# Altium schematic symbol library DAQ.SchLib: 78 symbols (part 1 of 3)
Pins are listed as number, name and electrical type; pins without a type are passive.

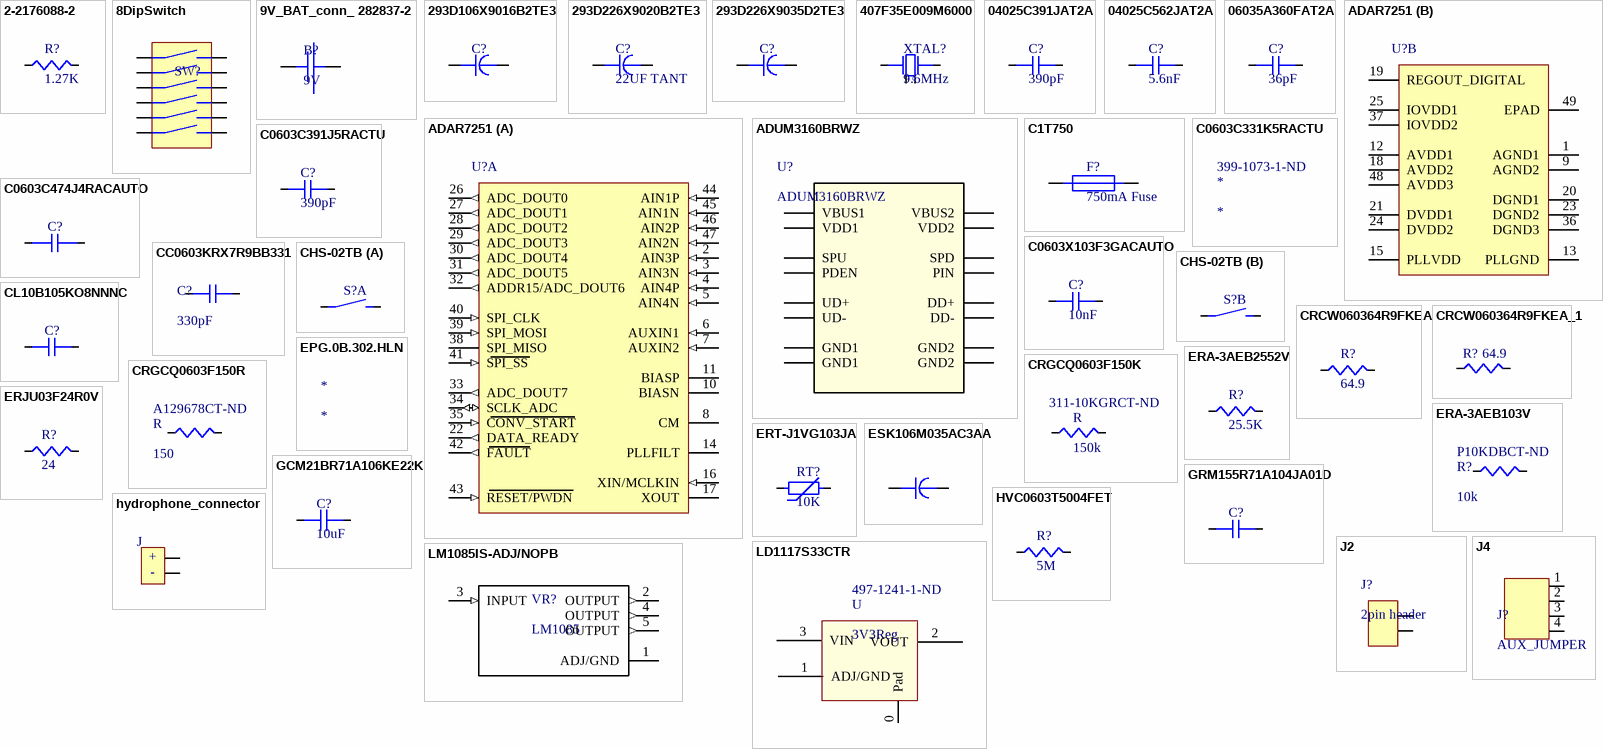
[diagram p0: symbols 2-2176088-2 to LM1085IS-ADJ/NOPB]

## 2-2176088-2
designator R?, comment 1.27K
RES SMD 1.27K OHM 0.1% 1/6W 0603; Manufacturer 1: Vishay Dale; Manufacturer Part Number 1: TNPW060310K0BEEA; Resistance: 10kR; Tolerance: 1%; Temperature Coefficient: 25ppm/°C; Power Rating: 100mW; Voltage Rating: 75V; Stock 1: 296181; Pricing 1: 1=0.65000, 10=0.46200, 100=0.24020, 1000=0.12936, 2500=0.12760 (USD); RoHS: Yes; Mount: Surface Mount; Case/Package: 0603; Weight: 7.1E-05oz; Contact Plating: Tin; Case Code (Metric): 1608; Case Code (Imperial): 0603; Min Operating Temperature: -55°C; Max Operating Temperature: 125°C; Composition: Thin Film; Packaging: Tape and Reel; Package Quantity: 1; Number of Terminations: 2; Termination: SMD/SMT; Military Standard: Not; Max Power Dissipation: 100mW; Features: Moisture Resistant,Automotive AEC-Q200,Anti-Sulfur; Length: 1.6mm; Height: 0.022inch; Width: 0.033inch; Depth: 0.85mm; Radiation Hardening: No; REACH SVHC: Unknown; ComponentLink1URL: https://datasheet.ciiva.com/2483/tnpw-e3-2483253.pdf?src-supplier=Digi-Key; ComponentLink1Description: https://datasheet.ciiva.com/2483/tnpw-e3-2483253.pdf?src-supplier=Digi-Key; ComponentLink2URL: https://datasheet.ciiva.com/17190/tnpw-e3-17190917.pdf?src-supplier=Avnet+Europe; ComponentLink2Description: https://datasheet.ciiva.com/17190/tnpw-e3-17190917.pdf?src-supplier=Avnet+Europe; ComponentLink3URL: https://datasheet.ciiva.com/2483/tnpw-e3-2483254.pdf?src-supplier=Digi-Key; ComponentLink3Description: https://datasheet.ciiva.com/2483/tnpw-e3-2483254.pdf?src-supplier=Digi-Key; ComponentLink4URL: https://datasheet.ciiva.com/2483/tnpw-e3-2483255.pdf?src-supplier=Digi-Key; ComponentLink4Description: https://datasheet.ciiva.com/2483/tnpw-e3-2483255.pdf?src-supplier=Digi-Key; ComponentLink5URL: https://datasheet.ciiva.com/16335/tnpw-e3-16335132.pdf?src-supplier=Future+Electronics; ComponentLink5Description: https://datasheet.ciiva.com/16335/tnpw-e3-16335132.pdf?src-supplier=Future+Electronics; ComponentLink6URL: https://datasheet.ciiva.com/28589/1912606-28589004.pdf?src-supplier=Element14; ComponentLink6Description: https://datasheet.ciiva.com/28589/1912606-28589004.pdf?src-supplier=Element14; ComponentLink7URL: https://datasheet.ciiva.com/7792/tnpw-e3-7792477.pdf?src-supplier=Element14; ComponentLink7Description: https://datasheet.ciiva.com/7792/tnpw-e3-7792477.pdf?src-supplier=Element14; ComponentLink8URL: https://datasheet.ciiva.com/9050/tnpw-e3-9050974.pdf?src-supplier=Avnet; ComponentLink8Description: https://datasheet.ciiva.com/9050/tnpw-e3-9050974.pdf?src-supplier=Avnet; Supplier 1: Digi-Key; Supplier Part Number 1: A110118CT-ND
footprint R0603
pins: 1, 2

## 8DipSwitch
designator SW?, comment 8DIP  (value not drawn)
Supplier 1: Digi-Key; Supplier Part Number 1: SW1116-ND
pins: 1, 2, 3, 4, 5, 6, 7, 8, 9, 10, 11, 12

## 9V_BAT_conn_ 282837-2
designator B?, comment 9V
Supplier 1: Digi-Key; Supplier Part Number 1: A113320-ND
footprint *TE_282837-2; pin to pad +>2 ->1
footprint HEADERPINS_2x1_Power
pins: +, -

## 293D106X9016B2TE3
designator C?, comment 10uF TANT  (value not drawn)
CAP TANT 10UF 10% 16V 1411; Manufacturer 1: Vishay Sprague; Manufacturer Part Number 1: 293D106X9016B2TE3; Dielectric Material: Tantalum; ESR (Equivalent Series Resistance): 2R; Ripple Current: 160mA; Leakage Current: 1.6uA; Polarity: Polar; Dissipation Factor: 6%; Q Factor: 6; Supplier 1: Digi-Key; Supplier Part Number 1: 718-1124-1-ND; Stock 1: 399568; Pricing 1: 1=0.44000, 10=0.30500, 100=0.18290, 500=0.13714, 1000=0.11581 (USD); RoHS: Yes; Mount: Surface Mount,PCB; Case/Package: 1411; Case Code (Metric): 3528; Case Code (Imperial): 1411; Min Operating Temperature: -55°C; Max Operating Temperature: 125°C; Package Quantity: 1; Capacitance: 10uF; Voltage Rating: 16V; Tolerance: 10%; Packaging: Tape and Reel; Voltage Rating (DC): 16V; Termination: SMD/SMT; Voltage: 16V; Features: General Purpose; Length: 3.5mm; Height: 1.9mm; Width: 0.11inch; Height - Seated (Max): 0.083inch; Depth: 2.8mm; Radiation Hardening: No; REACH SVHC: Unknown; Lead Free: Lead Free; ComponentLink1URL: https://datasheet.ciiva.com/11793/0900766b80d97b37-11793046.pdf?src-supplier=RSComponents; ComponentLink1Description: https://datasheet.ciiva.com/11793/0900766b80d97b37-11793046.pdf?src-supplier=RSComponents; ComponentLink2URL: https://datasheet.ciiva.com/27054/1931190-27054953.pdf?src-supplier=Jameco; ComponentLink2Description: https://datasheet.ciiva.com/27054/1931190-27054953.pdf?src-supplier=Jameco; ComponentLink3URL: https://datasheet.ciiva.com/258/293d-258176.pdf?src-supplier=Digi-Key; ComponentLink3Description: https://datasheet.ciiva.com/258/293d-258176.pdf?src-supplier=Digi-Key; ComponentLink4URL: https://datasheet.ciiva.com/258/293d-258177.pdf?src-supplier=Digi-Key; ComponentLink4Description: https://datasheet.ciiva.com/258/293d-258177.pdf?src-supplier=Digi-Key; ComponentLink5URL: https://datasheet.ciiva.com/16632/293d-16632453.pdf?src-supplier=Avnet+Europe; ComponentLink5Description: https://datasheet.ciiva.com/16632/293d-16632453.pdf?src-supplier=Avnet+Europe; ComponentLink6URL: https://datasheet.ciiva.com/3003/293d-3003830.pdf?src-supplier=Avnet; ComponentLink6Description: https://datasheet.ciiva.com/3003/293d-3003830.pdf?src-supplier=Avnet; ComponentLink7URL: https://datasheet.ciiva.com/16308/293d-16308278.pdf?src-supplier=Future+Electronics; ComponentLink7Description: https://datasheet.ciiva.com/16308/293d-16308278.pdf?src-supplier=Future+Electronics; ComponentLink8URL: https://datasheet.ciiva.com/3003/293d-3003831.pdf?src-supplier=Avnet; ComponentLink8Description: https://datasheet.ciiva.com/3003/293d-3003831.pdf?src-supplier=Avnet; ComponentLink9URL: https://datasheet.ciiva.com/12882/293d-239871-12882647.pdf?src-supplier=Mouser; ComponentLink9Description: https://datasheet.ciiva.com/12882/293d-239871-12882647.pdf?src-supplier=Mouser; ComponentLink10URL: https://datasheet.ciiva.com/18444/70212567-18444888.pdf?src-supplier=Allied+Electronics; ComponentLink10Description: https://datasheet.ciiva.com/18444/70212567-18444888.pdf?src-supplier=Allied+Electronics; ComponentLink11URL: https://datasheet.ciiva.com/22695/438417-22695112.pdf?src-supplier=Element14; ComponentLink11Description: https://datasheet.ciiva.com/22695/438417-22695112.pdf?src-supplier=Element14; ComponentLink12URL: https://datasheet.ciiva.com/22644/1748031-22644446.pdf?src-supplier=Element14; ComponentLink12Description: https://datasheet.ciiva.com/22644/1748031-22644446.pdf?src-supplier=Element14; ComponentLink13URL: https://datasheet.ciiva.com/258/293d-258175.pdf?src-supplier=Digi-Key; ComponentLink13Description: https://datasheet.ciiva.com/258/293d-258175.pdf?src-supplier=Digi-Key; ComponentLink14URL: https://datasheet.ciiva.com/29243/454876-da-01-en-smd-kondensator-293d106x9016b2te3-2000st-29243877.pdf?src-supplier=Conrad; ComponentLink14Description: https://datasheet.ciiva.com/29243/454876-da-01-en-smd-kondensator-293d106x9016b2te3-2000st-29243877.pdf?src-supplier=Conrad
footprint 293D106X9016B2TE3; pin to pad 5>2
pins: 1, 5

## 293D226X9020B2TE3
designator C?, comment 22UF TANT
CAP TANT 22UF 10% 20V 1411; Supplier 1: Digi-Key; Supplier Part Number 1: 718-1742-1-ND
footprint 293D106X9016B2TE3
pins: 1, 2

## 293D226X9035D2TE3
designator C?, comment 22UF TANT  (value not drawn)
CAP TANT 22UF 10% 35V 2917; Manufacturer 1: Vishay Sprague; Manufacturer Part Number 1: 293D226X9035D2TE3; Dielectric Material: Tantalum; ESR (Equivalent Series Resistance): 600mR; Polarity: Polar; Ripple Current: 500mA; Dissipation Factor: 6%; Voltage Rating (DC): 300kV; Leakage Current: 7.7uA; Supplier 1: Digi-Key; Supplier Part Number 1: 718-1071-1-ND; RoHS: Yes; Category: Tantalum Capacitors; Stock 1: 31; Pricing 1: 1=1.00000, 10=0.78800, 50=0.68260, 100=0.59060 (USD); Mount: Surface Mount,PCB; Case/Package: 2917; Case Code (Imperial): 2917; Case Code (Metric): 7343; Weight: 0.023634oz; Min Operating Temperature: -55°C; Max Operating Temperature: 125°C; Capacitance: 22uF; Tolerance: 10%; Voltage: 35V; Voltage Rating: 35V; Packaging: Tape and Reel; Package Quantity: 1; Termination: SMD/SMT; Features: General Purpose; Length: 7.3mm; Width: 2.8mm; Height: 2.8mm; Depth: 4.3mm; Height - Seated (Max): 0.122inch; Radiation Hardening: No; Lead Free: Lead Free; REACH SVHC: Unknown; ComponentLink1URL: https://datasheet.ciiva.com/11793/0900766b80d97b37-11793792.pdf?src-supplier=RSComponents; ComponentLink1Description: https://datasheet.ciiva.com/11793/0900766b80d97b37-11793792.pdf?src-supplier=RSComponents; ComponentLink2URL: https://datasheet.ciiva.com/3003/293d-3003938.pdf?src-supplier=Avnet; ComponentLink2Description: https://datasheet.ciiva.com/3003/293d-3003938.pdf?src-supplier=Avnet; ComponentLink3URL: https://datasheet.ciiva.com/16357/293d-16357928.pdf?src-supplier=Future+Electronics; ComponentLink3Description: https://datasheet.ciiva.com/16357/293d-16357928.pdf?src-supplier=Future+Electronics; ComponentLink4URL: https://datasheet.ciiva.com/22695/438417-22695144.pdf?src-supplier=Element14; ComponentLink4Description: https://datasheet.ciiva.com/22695/438417-22695144.pdf?src-supplier=Element14; ComponentLink5URL: https://datasheet.ciiva.com/260/293d-260029.pdf?src-supplier=Digi-Key; ComponentLink5Description: https://datasheet.ciiva.com/260/293d-260029.pdf?src-supplier=Digi-Key; ComponentLink6URL: https://datasheet.ciiva.com/260/293d-260031.pdf?src-supplier=Digi-Key; ComponentLink6Description: https://datasheet.ciiva.com/260/293d-260031.pdf?src-supplier=Digi-Key; ComponentLink7URL: https://datasheet.ciiva.com/1463/438417-1463353.pdf?src-supplier=Element14; ComponentLink7Description: https://datasheet.ciiva.com/1463/438417-1463353.pdf?src-supplier=Element14; ComponentLink8URL: https://datasheet.ciiva.com/260/293d-260030.pdf?src-supplier=Digi-Key; ComponentLink8Description: https://datasheet.ciiva.com/260/293d-260030.pdf?src-supplier=Digi-Key
footprint CAP_293D_D_VIS
pins: 1, 2

## 407F35E009M6000
designator XTAL?, comment 9.6MHz
CRYSTAL 9.6000MHZ 20PF SMD; Manufacturer 1: CTS; Manufacturer Part Number 1: 407F35E009M6000; Frequency Tolerance: 30ppm; ESR (Equivalent Series Resistance): 60R; Frequency Stability: 50ppm; Supplier 1: Digi-Key; Supplier Part Number 1: CTX680CT-ND; Stock 1: 2720; Pricing 1: 1=1.00000, 10=0.88800, 50=0.83020, 100=0.73360, 500=0.69498 (USD); RoHS: Yes; Mount: Surface Mount; Case/Package: SMD/SMT; Contact Plating: Gold; Min Operating Temperature: -20°C; Max Operating Temperature: 70°C; Package Quantity: 1; Frequency: 9.6MHz; Load Capacitance: 20pF; Packaging: Tape and Reel; Tolerance: 30ppm; Termination: SMD/SMT; Series Resistance: 60R; Length: 0.276inch; Height: 0.051inch; Width: 0.197inch; Lead Free: Lead Free; ComponentLink1URL: https://datasheet.ciiva.com/858/008-0261-0-g-858768.pdf?src-supplier=Digi-Key; ComponentLink1Description: https://datasheet.ciiva.com/858/008-0261-0-g-858768.pdf?src-supplier=Digi-Key; ComponentLink2URL: https://datasheet.ciiva.com/858/008-0261-0-g-858769.pdf?src-supplier=Digi-Key; ComponentLink2Description: https://datasheet.ciiva.com/858/008-0261-0-g-858769.pdf?src-supplier=Digi-Key; ComponentLink3URL: https://datasheet.ciiva.com/29892/008-0261-0-g-29892904.pdf?src-supplier=Avnet; ComponentLink3Description: https://datasheet.ciiva.com/29892/008-0261-0-g-29892904.pdf?src-supplier=Avnet; ComponentLink4URL: https://datasheet.ciiva.com/16317/008-0261-0-g-16317435.pdf?src-supplier=Future+Electronics; ComponentLink4Description: https://datasheet.ciiva.com/16317/008-0261-0-g-16317435.pdf?src-supplier=Future+Electronics; ComponentLink5URL: https://datasheet.ciiva.com/858/008-0261-0-g-858767.pdf?src-supplier=Digi-Key; ComponentLink5Description: https://datasheet.ciiva.com/858/008-0261-0-g-858767.pdf?src-supplier=Digi-Key
footprint XTAL_407F35E009M6000
pins: 1, 2, 3, 4
text: G

## 04025C391JAT2A
designator C?, comment 390pF
CAP CER 390PF 50V C0G/NP0 0603; Dielectric Material: Ceramic; Tolerance: 5%; Dielectric: C0G; Dissipation Factor: 0.1%; Temperature Coefficient: 30ppm/°C; RoHS: Yes; Mount: Surface Mount,PCB; Case/Package: 0603; Number of Pins: 2; Case Code (Metric): 1608; Case Code (Imperial): 0603; Min Operating Temperature: -55°C; Max Operating Temperature: 125°C; Capacitance: 390pF; Voltage Rating (DC): 50V; Packaging: Tape and Reel; Package Quantity: 1; Voltage Rating: 50V; Termination: SMD/SMT; Voltage: 50V; Length: 1.6mm; Height: 0.8mm; Depth: 0.8mm; Width: 0.8mm; Thickness: 0.034inch; Lead Pitch: 0.7mm; Radiation Hardening: No; Lead Free: Lead Free; REACH SVHC: No SVHC; ComponentLink1URL: https://datasheet.ciiva.com/144/docfinderpartnumber-c0603c391j5gactu-144833.pdf?src-supplier=Digi-Key; ComponentLink1Description: https://datasheet.ciiva.com/144/docfinderpartnumber-c0603c391j5gactu-144833.pdf?src-supplier=Digi-Key; ComponentLink2URL: https://datasheet.ciiva.com/7823/40889-7823769.pdf?src-supplier=Element14; ComponentLink2Description: https://datasheet.ciiva.com/7823/40889-7823769.pdf?src-supplier=Element14; ComponentLink3URL: https://datasheet.ciiva.com/7823/40889-7823770.pdf?src-supplier=Element14; ComponentLink3Description: https://datasheet.ciiva.com/7823/40889-7823770.pdf?src-supplier=Element14; ComponentLink4URL: https://datasheet.ciiva.com/5415/kem-c1003-c0g-smd-356956-5415640.pdf?src-supplier=Mouser; ComponentLink4Description: https://datasheet.ciiva.com/5415/kem-c1003-c0g-smd-356956-5415640.pdf?src-supplier=Mouser; ComponentLink5URL: https://datasheet.ciiva.com/18102/getdatasheetpartid-77374-18102795.pdf?src-supplier=Verical; ComponentLink5Description: https://datasheet.ciiva.com/18102/getdatasheetpartid-77374-18102795.pdf?src-supplier=Verical; ComponentLink6URL: https://datasheet.ciiva.com/18219/getdatasheetpartid-385544-18219227.pdf?src-supplier=Verical; ComponentLink6Description: https://datasheet.ciiva.com/18219/getdatasheetpartid-385544-18219227.pdf?src-supplier=Verical; Supplier 1: Digi-Key; Supplier Part Number 1: 478-5269-1-ND
footprint c0402
pins: 1, 2

## 04025C562JAT2A
designator C?, comment 5.6nF
Multilayer Ceramic Capacitors MLCC - SMD/SMT 50volts 5600pF 5% C0G; Voltage Rating (DC): 50V; Temperature Coefficient: 30ppm/°C; Dissipation Factor: 0.1%; RoHS: Yes; Mount: Surface Mount; Case/Package: 0603; Number of Pins: 2; Dielectric Material: Ceramic; Case Code (Metric): 1608; Case Code (Imperial): 0603; Min Operating Temperature: -55°C; Max Operating Temperature: 125°C; Capacitance: 5.6nF; Tolerance: 5%; Dielectric: C0G; Package Quantity: 4000; Voltage Rating: 50V; Packaging: Tape and Reel; Termination: SMD/SMT; Voltage: 50V; Length: 1.6mm; Height: 0.8mm; Width: 0.031inch; Thickness: 0.034inch; Depth: 0.8mm; Radiation Hardening: No; Lead Free: Lead Free; REACH SVHC: No SVHC; ComponentLink1URL: https://datasheet.ciiva.com/28608/1372242-28608633.pdf?src-supplier=Element14; ComponentLink1Description: https://datasheet.ciiva.com/28608/1372242-28608633.pdf?src-supplier=Element14; ComponentLink2URL: https://datasheet.ciiva.com/22705/40889-22705450.pdf?src-supplier=Element14; ComponentLink2Description: https://datasheet.ciiva.com/22705/40889-22705450.pdf?src-supplier=Element14; ComponentLink3URL: https://datasheet.ciiva.com/26847/getdatasheetpartid-385577-26847722.pdf?src-supplier=Verical; ComponentLink3Description: https://datasheet.ciiva.com/26847/getdatasheetpartid-385577-26847722.pdf?src-supplier=Verical; ComponentLink4URL: https://datasheet.ciiva.com/7823/40889-7823822.pdf?src-supplier=Element14; ComponentLink4Description: https://datasheet.ciiva.com/7823/40889-7823822.pdf?src-supplier=Element14; ComponentLink5URL: https://datasheet.ciiva.com/5448/kem-c1003-c0g-smd-356956-5448159.pdf?src-supplier=Mouser; ComponentLink5Description: https://datasheet.ciiva.com/5448/kem-c1003-c0g-smd-356956-5448159.pdf?src-supplier=Mouser; Supplier 1: Digi-Key; Supplier Part Number 1: 478-10129-1-ND
footprint C0402
pins: 1, 2

## 06035A360FAT2A
designator C?, comment 36pF
Multilayer Ceramic Capacitors MLCC - SMD/SMT 50V 36pF C0G 0603 1% Tol; Manufacturer 1: Kyocera AVX; Manufacturer Part Number 1: 06035A360FAT2A; Supplier 1: Digi-Key; Supplier Part Number 1: 478-11373-1-ND; Stock 1: 16266; Pricing 1: 1=0.55000, 10=0.38000, 100=0.22770, 500=0.17078, 1000=0.14421 (USD); RoHS: Yes; Mount: Surface Mount; Case/Package: 0603; Case Code (Imperial): 0603; Case Code (Metric): 1608; Min Operating Temperature: -55°C; Max Operating Temperature: 125°C; Capacitance: 36pF; Tolerance: 1%; Dielectric: C0G; Packaging: Tape and Reel; Package Quantity: 8000; Voltage Rating: 50V; Voltage Rating (DC): 50V; Termination: SMD/SMT; Length: 1.6mm; Depth: 0.81mm; Width: 0.81mm; Thickness: 0.035inch; Radiation Hardening: No; ComponentLink1URL: https://datasheet.ciiva.com/11567/ccog-11567927.pdf?src-supplier=Avnet; ComponentLink1Description: https://datasheet.ciiva.com/11567/ccog-11567927.pdf?src-supplier=Avnet; ComponentLink2URL: https://datasheet.ciiva.com/5423/ccog-243403-5423289.pdf?src-supplier=Mouser; ComponentLink2Description: https://datasheet.ciiva.com/5423/ccog-243403-5423289.pdf?src-supplier=Mouser; ComponentLink3URL: https://datasheet.ciiva.com/17492/ccog-17492554.pdf?src-supplier=Avnet+Europe; ComponentLink3Description: https://datasheet.ciiva.com/17492/ccog-17492554.pdf?src-supplier=Avnet+Europe; ComponentLink4URL: https://datasheet.ciiva.com/209/ccog-209692.pdf?src-supplier=Digi-Key; ComponentLink4Description: https://datasheet.ciiva.com/209/ccog-209692.pdf?src-supplier=Digi-Key
footprint C0603
pins: 1, 2

## ADAR7251
designator U?, comment 15  (value not drawn)
footprint QFN50P700X700X75-49N
part A pins: 2 AIN3P (in), 3 AIN3N (in), 4 AIN4P (in), 5 AIN4N (in), 6 AUXIN1 (in), 7 AUXIN2 (in), 8 CM, 10 BIASN, 11 BIASP, 14 PLLFILT, 16 XIN/MCLKIN (in), 17 XOUT, 22 DATA_READY (out), 26 ADC_DOUT0 (out), 27 ADC_DOUT1 (out), 28 ADC_DOUT2 (out), 29 ADC_DOUT3 (out), 30 ADC_DOUT4 (out), 31 ADC_DOUT5 (out), 32 ADDR15/ADC_DOUT6 (out), 33 ADC_DOUT7 (out), 34 SCLK_ADC (io), 35 CONV_START (in), 38 SPI_MISO, 39 SPI_MOSI (in), 40 SPI_CLK (in), 41 SPI_SS (in), 42 FAULT (out), 43 RESET/PWDN (in), 44 AIN1P (in), 45 AIN1N (in), 46 AIN2P (in), 47 AIN2N (in)
part B pins: 1 AGND1, 9 AGND2, 12 AVDD1, 13 PLLGND, 15 PLLVDD, 18 AVDD2, 19 REGOUT_DIGITAL, 20 DGND1, 21 DVDD1, 23 DGND2, 24 DVDD2, 25 IOVDD1, 36 DGND3, 37 IOVDD2, 48 AVDD3, 49 EPAD

## ADUM3160BRWZ
designator U?
USB Isolation; SourceLibrary: Analog_2015-12-15; Built_By: EMA_UL_Team; Vendor: Analog Devices Inc; Manufacturer_Part_Number: ADUM3160BRWZ; Copyright: Copyright (C) 2018 Accelerated Designs. All rights reserved; RefDes: RefDes; Type: DEV
footprint RW_16_ADI-L
pins: 1 VBUS1, 2 GND1, 3 VDD1, 4 PDEN, 5 SPU, 6 UD-, 7 UD+, 8 GND1, 9 GND2, 10 DD+, 11 DD-, 12 PIN, 13 SPD, 14 VDD2, 15 GND2, 16 VBUS2

## C1T750
designator F?, comment 750mA Fuse
FUSE 750MA 63VAC/DC SLOW 1206; Manufacturer 1: Bel TRP; Manufacturer Part Number 1: C1T750; Voltage Rating (AC): 63V; Fuse Type: Board Mount (Cartridge Style Excluded); Approvals: CE,cURus; Supplier 1: Digi-Key; Supplier Part Number 1: 507-1890-1-ND; Stock 1: 49664; Pricing 1: 1=0.31000, 5=0.29800, 10=0.28500, 50=0.25460, 100=0.23700, 250=0.21068, 500=0.17556, 1000=0.16678 (USD); RoHS: Yes; Mount: Surface Mount; Case/Package: 1206; Number of Pins: 2; Case Code (Metric): 3216; Case Code (Imperial): 1206; Contact Plating: Tin; Min Operating Temperature: -55°C; Max Operating Temperature: 125°C; Packaging: Tape and Reel; Current Rating: 750mA; Voltage Rating (DC): 63V; Voltage Rating: 63V; Length: 0.126inch; Width: 0.062inch; ComponentLink1URL: http://www.mouser.com/ds/2/643/C1T-594765.pdf?src-supplier=Mouser; ComponentLink1Description: http://www.mouser.com/ds/2/643/C1T-594765.pdf?src-supplier=Mouser; ComponentLink2URL: http://belfuse.com/pdfs/C1T.pdf?src-supplier=Avnet; ComponentLink2Description: http://belfuse.com/pdfs/C1T.pdf?src-supplier=Avnet; ComponentLink3URL: https://belfuse.com/resources/datasheets/circuitprotection/ds-cp-c1t-series.pdf?src-supplier=Digi-Key; ComponentLink3Description: https://belfuse.com/resources/datasheets/circuitprotection/ds-cp-c1t-series.pdf?src-supplier=Digi-Key
footprint fuse_C1T_1206
pins: 1, 2

## C0603C331K5RACTU
designator *  Supplier Part Number 1: 399-1073-1-ND
KEMET - C0603C331K5RACTU - CAP, 330PF, 50V, 10%, X7R, 0603; Dielectric Material: Ceramic; Dissipation Factor: 2.5%; Supplier 1: Digi-Key; Manufacturer 1: KEMET; Manufacturer Part Number 1: C0603C331K5RACTU; Stock 1: 248796; Pricing 1: 1=0.10000, 10=0.07500, 100=0.03350, 500=0.02390, 1000=0.01879 (USD); RoHS: Yes; Mount: Surface Mount; Case/Package: 0603; Number of Pins: 2; Case Code (Metric): 1608; Case Code (Imperial): 0603; Min Operating Temperature: -55°C; Max Operating Temperature: 125°C; Capacitance: 330pF; Tolerance: 10%; Voltage Rating: 50V; Packaging: Tape and Reel; Voltage Rating (DC): 50V; Package Quantity: 1; Dielectric: X7R; Termination: SMD/SMT; Voltage: 50V; Length: 1.6mm; Height: 0.8mm; Width: 0.031inch; Thickness: 0.034inch; Depth: 0.8mm; Lead Pitch: 0.7mm; Radiation Hardening: No; REACH SVHC: No SVHC; ComponentLink1URL: https://datasheet.ciiva.com/18102/getdatasheetpartid-66936-18102342.pdf?src-supplier=Verical; ComponentLink1Description: https://datasheet.ciiva.com/18102/getdatasheetpartid-66936-18102342.pdf?src-supplier=Verical; ComponentLink2URL: https://datasheet.ciiva.com/18192/getdatasheetpartid-356611-18192982.pdf?src-supplier=Verical; ComponentLink2Description: https://datasheet.ciiva.com/18192/getdatasheetpartid-356611-18192982.pdf?src-supplier=Verical; ComponentLink3URL: https://datasheet.ciiva.com/49516/1637206-49516647.pdf?src-supplier=Jameco; ComponentLink3Description: https://datasheet.ciiva.com/49516/1637206-49516647.pdf?src-supplier=Jameco; ComponentLink4URL: https://datasheet.ciiva.com/5422/kem-c1002-x7r-smd-357932-5422745.pdf?src-supplier=Mouser; ComponentLink4Description: https://datasheet.ciiva.com/5422/kem-c1002-x7r-smd-357932-5422745.pdf?src-supplier=Mouser; ComponentLink5URL: https://datasheet.ciiva.com/46440/1851736-46440607.pdf?src-supplier=Element14; ComponentLink5Description: https://datasheet.ciiva.com/46440/1851736-46440607.pdf?src-supplier=Element14

## C0603C391J5RACTU
designator C?, comment 390pF
CAP CER 390PF 50V X7R 0603; Manufacturer 1: Murata; Manufacturer Part Number 1: GRM155R71A104JA01D; Capacitance: 100nF; Tolerance: 5%; Voltage Rating: 10V; Stock 1: 1113659; Pricing 1: 1=0.10000, 10=0.02800, 100=0.01240, 500=0.00886, 1000=0.00696, 2500=0.00632, 5000=0.00582 (USD); RoHS: Yes; Mount: Surface Mount; Case/Package: 0402; Case Code (Imperial): 0402; Case Code (Metric): 1005; Min Operating Temperature: -55°C; Max Operating Temperature: 125°C; Packaging: Tape and Reel; Voltage Rating (DC): 10V; Package Quantity: 10000; Dielectric: X7R; Termination: SMD/SMT; Length: 1mm; Height: 0.5mm; Width: 0.02inch; Thickness: 0.022inch; Depth: 0.5mm; Radiation Hardening: No; Lead Free: Lead Free; ComponentLink1URL: https://datasheet.ciiva.com/5411/product-5411135.pdf?src-supplier=Mouser; ComponentLink1Description: https://datasheet.ciiva.com/5411/product-5411135.pdf?src-supplier=Mouser; ComponentLink2URL: https://datasheet.ciiva.com/11618/c02e-11618821.pdf?src-supplier=Avnet; ComponentLink2Description: https://datasheet.ciiva.com/11618/c02e-11618821.pdf?src-supplier=Avnet; Supplier 1: Digi-Key; Supplier Part Number 1: 399-9074-1-ND
footprint C0603
pins: 1, 2

## C0603C474J4RACAUTO
designator C?, comment .47uF  (value not drawn)
KEMET - C0603C474J4RACAUTO - CAP, 0.47µF, 16V, 5%, X7R, 0603; Capacitance: 470nF; Supplier 1: Digi-Key; Supplier Part Number 1: 399-17596-1-ND; Manufacturer 1: KEMET; Manufacturer Part Number 1: C0603C474J4RACAUTO; Stock 1: 10040; Pricing 1: 1=0.51000, 10=0.35800, 100=0.23570, 500=0.17462, 1000=0.14842 (USD); RoHS: Yes; Case/Package: 0603; Min Operating Temperature: -55°C; Max Operating Temperature: 125°C; Dielectric: X7R; Tolerance: 5%; Packaging: Tape and Reel; Length: 1.6mm; Depth: 0.8mm; ComponentLink1URL: http://www.farnell.com/datasheets/2749769.pdf?src-supplier=Farnell; ComponentLink1Description: http://www.farnell.com/datasheets/2749769.pdf?src-supplier=Farnell; ComponentLink2URL: http://components.arrow.com/part/dataview/0323_07310140?src-supplier=Arrow+Europe; ComponentLink2Description: http://components.arrow.com/part/dataview/0323_07310140?src-supplier=Arrow+Europe; ComponentLink3URL: https://api.kemet.com/component-edge/download/datasheet/C0603C474J4RACAUTO.pdf?src-supplier=Digi-Key; ComponentLink3Description: https://api.kemet.com/component-edge/download/datasheet/C0603C474J4RACAUTO.pdf?src-supplier=Digi-Key; ComponentLink4URL: http://www.farnell.com/datasheets/2749769.pdf?src-supplier=Element14; ComponentLink4Description: http://www.farnell.com/datasheets/2749769.pdf?src-supplier=Element14; ComponentLink5URL: http://www.farnell.com/datasheets/2749769.pdf?src-supplier=Newark; ComponentLink5Description: http://www.farnell.com/datasheets/2749769.pdf?src-supplier=Newark
footprint C0603
pins: 1, 2

## C0603X103F3GACAUTO
designator C?, comment 10nF
CAP CER 10000PF 25V C0G/NP0 0603; Manufacturer 1: Murata; Manufacturer Part Number 1: GRM155R71A104JA01D; Capacitance: 100nF; Tolerance: 5%; Voltage Rating: 10V; Dielectric: X7R; Stock 1: 1113659; Pricing 1: 1=0.10000, 10=0.02800, 100=0.01240, 500=0.00886, 1000=0.00696, 2500=0.00632, 5000=0.00582 (USD); RoHS: Yes; Mount: Surface Mount; Case/Package: 0402; Case Code (Imperial): 0402; Case Code (Metric): 1005; Min Operating Temperature: -55°C; Max Operating Temperature: 125°C; Packaging: Tape and Reel; Voltage Rating (DC): 10V; Package Quantity: 10000; Termination: SMD/SMT; Length: 1mm; Height: 0.5mm; Width: 0.02inch; Thickness: 0.022inch; Depth: 0.5mm; Radiation Hardening: No; Lead Free: Lead Free; ComponentLink1URL: https://datasheet.ciiva.com/5411/product-5411135.pdf?src-supplier=Mouser; ComponentLink1Description: https://datasheet.ciiva.com/5411/product-5411135.pdf?src-supplier=Mouser; ComponentLink2URL: https://datasheet.ciiva.com/11618/c02e-11618821.pdf?src-supplier=Avnet; ComponentLink2Description: https://datasheet.ciiva.com/11618/c02e-11618821.pdf?src-supplier=Avnet; Supplier 1: Digi-Key; Supplier Part Number 1: 399-C0603X103F3GACAUTOCT-ND
footprint C0603
pins: 1, 2

## CC0603KRX7R9BB331
designator C?, comment 330pF
CAP CER 330PF 50V X7R 0603; Tolerance: 10%; Insulation Resistance: 10GR; Dissipation Factor: 2.5%; RoHS: Yes; Mount: Surface Mount; Case/Package: 0603; Case Code (Imperial): 0603; Case Code (Metric): 1608; Min Operating Temperature: -55°C; Max Operating Temperature: 125°C; Capacitance: 330pF; Dielectric: X7R; Package Quantity: 1; Voltage Rating: 50V; Voltage Rating (DC): 50V; Packaging: Tape and Reel; Termination: SMD/SMT; Composition: Ceramic; Length: 1.6mm; Height: 0.8mm; Depth: 0.8mm; Width: 0.8mm; Thickness: 0.035inch; Radiation Hardening: No; REACH SVHC: Unknown; Lead Free: Lead Free; Halogen Free: Halogen Free; ComponentLink1URL: https://datasheet.ciiva.com/8033/1489800-8033879.pdf?src-supplier=Element14; ComponentLink1Description: https://datasheet.ciiva.com/8033/1489800-8033879.pdf?src-supplier=Element14; ComponentLink2URL: https://datasheet.ciiva.com/17434/upy-gphc-x7r-6-3v-to-50v-8-17434663.pdf?src-supplier=Avnet+Europe; ComponentLink2Description: https://datasheet.ciiva.com/17434/upy-gphc-x7r-6-3v-to-50v-8-17434663.pdf?src-supplier=Avnet+Europe; ComponentLink3URL: https://datasheet.ciiva.com/144/mlccorderingcode-144456.pdf?src-supplier=Digi-Key; ComponentLink3Description: https://datasheet.ciiva.com/144/mlccorderingcode-144456.pdf?src-supplier=Digi-Key; ComponentLink4URL: https://datasheet.ciiva.com/144/mlccorderingcode-144454.pdf?src-supplier=Digi-Key; ComponentLink4Description: https://datasheet.ciiva.com/144/mlccorderingcode-144454.pdf?src-supplier=Digi-Key; ComponentLink5URL: https://datasheet.ciiva.com/144/mlccorderingcode-144455.pdf?src-supplier=Digi-Key; ComponentLink5Description: https://datasheet.ciiva.com/144/mlccorderingcode-144455.pdf?src-supplier=Digi-Key; ComponentLink6URL: https://datasheet.ciiva.com/11465/upy-gphc-x7r-6-3v-to-50v-8-11465240.pdf?src-supplier=Avnet; ComponentLink6Description: https://datasheet.ciiva.com/11465/upy-gphc-x7r-6-3v-to-50v-8-11465240.pdf?src-supplier=Avnet; ComponentLink7URL: https://datasheet.ciiva.com/8033/1489800-8033881.pdf?src-supplier=Element14; ComponentLink7Description: https://datasheet.ciiva.com/8033/1489800-8033881.pdf?src-supplier=Element14; ComponentLink8URL: https://datasheet.ciiva.com/7978/1489800-7978174.pdf?src-supplier=Element14; ComponentLink8Description: https://datasheet.ciiva.com/7978/1489800-7978174.pdf?src-supplier=Element14; Supplier 1: Digi-Key; Supplier Part Number 1: 311-1186-1-ND
footprint C0603
pins: 1, 2

## CHS-02TB
designator S?, comment DIP2  (value not drawn)
SWITCH SLIDE DIP SPST 100MA 6V; Body Material: Polyphenylene; Mechanical Life: 1000Cycles; Actuator Material: Polyamide; Max Voltage Rating (DC): 24V; Number of Positions: 2; Contact Resistance: 50mR; Current Rating: 25mA; Actuator Type: Slide (Standard); Pitch: 0.1inch; Actuator Length: 0mm; Washable: Yes; RoHS: Yes; Mount: Surface Mount; Case/Package: DIP; Contact Material: Copper,Gold; Contact Plating: Gold; Min Operating Temperature: -40°C; Max Operating Temperature: 85°C; Throw Configuration: SPST; Termination: Gull Wing; Packaging: Tape and Reel; Package Quantity: 1; Voltage Rating (DC): 24V; Max Current Rating: 100mA; Electrical Life: 1000Cycles; Number of Circuits: 2; Orientation: Straight; Length: 0.278inch; Terminal Pitch: 2.54mm; Depth: 9.3mm; Radiation Hardening: No; REACH SVHC: No SVHC; Lead Free: Lead Free; ComponentLink1URL: https://datasheet.ciiva.com/2863/sda-17mar15-2863531.pdf?src-supplier=Digi-Key; ComponentLink1Description: https://datasheet.ciiva.com/2863/sda-17mar15-2863531.pdf?src-supplier=Digi-Key; ComponentLink2URL: https://datasheet.ciiva.com/16356/sda02h0sbr-16356011.pdf?src-supplier=Future+Electronics; ComponentLink2Description: https://datasheet.ciiva.com/16356/sda02h0sbr-16356011.pdf?src-supplier=Future+Electronics; ComponentLink3URL: https://datasheet.ciiva.com/2863/sda-17mar15-2863532.pdf?src-supplier=Digi-Key; ComponentLink3Description: https://datasheet.ciiva.com/2863/sda-17mar15-2863532.pdf?src-supplier=Digi-Key; ComponentLink4URL: https://datasheet.ciiva.com/2863/sda-17mar15-2863533.pdf?src-supplier=Digi-Key; ComponentLink4Description: https://datasheet.ciiva.com/2863/sda-17mar15-2863533.pdf?src-supplier=Digi-Key; Supplier 1: Digi-Key; Supplier Part Number 1: 563-1006-1-ND
footprint CHS-02TB
part A pins: 1, 4
part B pins: 2, 3

## CL10B105KO8NNNC
designator C?, comment 1uF  (value not drawn)
Cap Ceramic 1uF 16V X7R 10% SMD 0603 125C T/R; Manufacturer 1: Samsung; Manufacturer Part Number 1: CL10B105KO8NNNC; Supplier 1: Digi-Key; Supplier Part Number 1: 1276-1019-1-ND; Stock 1: 4048324; Pricing 1: 1=0.10000, 10=0.04800, 100=0.02120, 500=0.01516, 1000=0.01192 (USD); RoHS: Yes; Mount: Surface Mount; Case/Package: 0603; Case Code (Metric): 1608; Case Code (Imperial): 0603; Material: Ceramic; Min Operating Temperature: -55°C; Max Operating Temperature: 125°C; Packaging: Tape and Reel; Tolerance: 10%; Capacitance: 1uF; Voltage Rating: 16V; Dielectric: X7R; Voltage: 16V; Voltage Rating (DC): 16V; Length: 1.6mm; Height: 0.8mm; Width: 0.031inch; Thickness: 0.035inch; Depth: 0.8mm; Radiation Hardening: No; Lead Free: Lead Free; ComponentLink1URL: https://datasheet.ciiva.com/15195/getdatasheetpartid-357418-15195728.pdf?src-supplier=Verical; ComponentLink1Description: https://datasheet.ciiva.com/15195/getdatasheetpartid-357418-15195728.pdf?src-supplier=Verical; ComponentLink2URL: https://datasheet.ciiva.com/29198/458176-da-01-en-vs-kondensator-0603-29198478.pdf?src-supplier=Conrad; ComponentLink2Description: https://datasheet.ciiva.com/29198/458176-da-01-en-vs-kondensator-0603-29198478.pdf?src-supplier=Conrad
footprint C0603
pins: 1, 2

## CRCW060364R9FKEA
designator R?, comment 64.9
RES SMD 64.9 OHM 1% 1/10W 0603; Manufacturer 1: Vishay; Manufacturer Part Number 1: CRCW060364R9FKEA; Resistance: 64.9R; Power Rating: 100mW; Temperature Coefficient: 100ppm/°C; Voltage Rating: 75V; Supplier 1: Digi-Key; Supplier Part Number 1: 541-64.9HCT-ND; Stock 1: 18928; Pricing 1: 1=0.10000, 10=0.03600, 100=0.01460, 1000=0.00654, 2500=0.00568 (USD); RoHS: Yes; Case/Package: 0603; Number of Pins: 2; Weight: 7.1E-05oz; Case Code (Metric): 1608; Case Code (Imperial): 0603; Contact Plating: Tin; Min Operating Temperature: -55°C; Max Operating Temperature: 155°C; Tolerance: 1%; Package Quantity: 10; Packaging: Tape and Reel; Composition: Thick Film; Number of Terminations: 2; Max Power Dissipation: 100mW; Features: Automotive AEC-Q200; Termination: SMD/SMT; Military Standard: Not; Voltage Rating (DC): 75V; Length: 1.55mm; Height: 0.02inch; Width: 0.033inch; Depth: 0.85mm; Radiation Hardening: No; Lead Free: Lead Free; REACH SVHC: Unknown; ComponentLink1URL: https://datasheet.ciiva.com/2525/dcrcwe3-2525456.pdf?src-supplier=Digi-Key; ComponentLink1Description: https://datasheet.ciiva.com/2525/dcrcwe3-2525456.pdf?src-supplier=Digi-Key; ComponentLink2URL: https://datasheet.ciiva.com/2525/dcrcwe3-2525457.pdf?src-supplier=Digi-Key; ComponentLink2Description: https://datasheet.ciiva.com/2525/dcrcwe3-2525457.pdf?src-supplier=Digi-Key; ComponentLink3URL: https://datasheet.ciiva.com/22705/1697337-22705559.pdf?src-supplier=Element14; ComponentLink3Description: https://datasheet.ciiva.com/22705/1697337-22705559.pdf?src-supplier=Element14; ComponentLink4URL: https://datasheet.ciiva.com/3257/dcrcwe3-3257816.pdf?src-supplier=Avnet; ComponentLink4Description: https://datasheet.ciiva.com/3257/dcrcwe3-3257816.pdf?src-supplier=Avnet; ComponentLink5URL: https://datasheet.ciiva.com/7823/1697337-7823000.pdf?src-supplier=Element14; ComponentLink5Description: https://datasheet.ciiva.com/7823/1697337-7823000.pdf?src-supplier=Element14; ComponentLink6URL: https://datasheet.ciiva.com/7823/1697337-7823001.pdf?src-supplier=Element14; ComponentLink6Description: https://datasheet.ciiva.com/7823/1697337-7823001.pdf?src-supplier=Element14; ComponentLink7URL: https://datasheet.ciiva.com/16204/dcrcwe3-16204218.pdf?src-supplier=Future+Electronics; ComponentLink7Description: https://datasheet.ciiva.com/16204/dcrcwe3-16204218.pdf?src-supplier=Future+Electronics; ComponentLink8URL: https://datasheet.ciiva.com/22674/1847332-22674604.pdf?src-supplier=Element14; ComponentLink8Description: https://datasheet.ciiva.com/22674/1847332-22674604.pdf?src-supplier=Element14; ComponentLink9URL: https://datasheet.ciiva.com/5541/dcrcwe3-109170-5541133.pdf?src-supplier=Mouser; ComponentLink9Description: https://datasheet.ciiva.com/5541/dcrcwe3-109170-5541133.pdf?src-supplier=Mouser; ComponentLink10URL: https://datasheet.ciiva.com/2525/dcrcwe3-2525455.pdf?src-supplier=Digi-Key; ComponentLink10Description: https://datasheet.ciiva.com/2525/dcrcwe3-2525455.pdf?src-supplier=Digi-Key
footprint R0603
pins: 1, 2

## CRCW060364R9FKEA_1
designator R?, comment 64.9
RES SMD 64.9 OHM 1% 1/10W 0603; Manufacturer 1: Vishay; Manufacturer Part Number 1: CRCW060364R9FKEA; Resistance: 64.9R; Power Rating: 100mW; Temperature Coefficient: 100ppm/°C; Voltage Rating: 75V; Supplier 1: Digi-Key; Supplier Part Number 1: 541-64.9HCT-ND; Stock 1: 18928; Pricing 1: 1=0.10000, 10=0.03600, 100=0.01460, 1000=0.00654, 2500=0.00568 (USD); RoHS: Yes; Case/Package: 0603; Number of Pins: 2; Weight: 7.1E-05oz; Case Code (Metric): 1608; Case Code (Imperial): 0603; Contact Plating: Tin; Min Operating Temperature: -55°C; Max Operating Temperature: 155°C; Tolerance: 1%; Package Quantity: 10; Packaging: Tape and Reel; Composition: Thick Film; Number of Terminations: 2; Max Power Dissipation: 100mW; Features: Automotive AEC-Q200; Termination: SMD/SMT; Military Standard: Not; Voltage Rating (DC): 75V; Length: 1.55mm; Height: 0.02inch; Width: 0.033inch; Depth: 0.85mm; Radiation Hardening: No; Lead Free: Lead Free; REACH SVHC: Unknown; ComponentLink1URL: https://datasheet.ciiva.com/2525/dcrcwe3-2525456.pdf?src-supplier=Digi-Key; ComponentLink1Description: https://datasheet.ciiva.com/2525/dcrcwe3-2525456.pdf?src-supplier=Digi-Key; ComponentLink2URL: https://datasheet.ciiva.com/2525/dcrcwe3-2525457.pdf?src-supplier=Digi-Key; ComponentLink2Description: https://datasheet.ciiva.com/2525/dcrcwe3-2525457.pdf?src-supplier=Digi-Key; ComponentLink3URL: https://datasheet.ciiva.com/22705/1697337-22705559.pdf?src-supplier=Element14; ComponentLink3Description: https://datasheet.ciiva.com/22705/1697337-22705559.pdf?src-supplier=Element14; ComponentLink4URL: https://datasheet.ciiva.com/3257/dcrcwe3-3257816.pdf?src-supplier=Avnet; ComponentLink4Description: https://datasheet.ciiva.com/3257/dcrcwe3-3257816.pdf?src-supplier=Avnet; ComponentLink5URL: https://datasheet.ciiva.com/7823/1697337-7823000.pdf?src-supplier=Element14; ComponentLink5Description: https://datasheet.ciiva.com/7823/1697337-7823000.pdf?src-supplier=Element14; ComponentLink6URL: https://datasheet.ciiva.com/7823/1697337-7823001.pdf?src-supplier=Element14; ComponentLink6Description: https://datasheet.ciiva.com/7823/1697337-7823001.pdf?src-supplier=Element14; ComponentLink7URL: https://datasheet.ciiva.com/16204/dcrcwe3-16204218.pdf?src-supplier=Future+Electronics; ComponentLink7Description: https://datasheet.ciiva.com/16204/dcrcwe3-16204218.pdf?src-supplier=Future+Electronics; ComponentLink8URL: https://datasheet.ciiva.com/22674/1847332-22674604.pdf?src-supplier=Element14; ComponentLink8Description: https://datasheet.ciiva.com/22674/1847332-22674604.pdf?src-supplier=Element14; ComponentLink9URL: https://datasheet.ciiva.com/5541/dcrcwe3-109170-5541133.pdf?src-supplier=Mouser; ComponentLink9Description: https://datasheet.ciiva.com/5541/dcrcwe3-109170-5541133.pdf?src-supplier=Mouser; ComponentLink10URL: https://datasheet.ciiva.com/2525/dcrcwe3-2525455.pdf?src-supplier=Digi-Key; ComponentLink10Description: https://datasheet.ciiva.com/2525/dcrcwe3-2525455.pdf?src-supplier=Digi-Key
footprint R0603
pins: 1, 2

## CRGCQ0603F150K
designator R, comment 150k  Supplier Part Number 1: 311-10KGRCT-ND
CRGCQ 0603 150K 1%; Manufacturer 1: Yageo; Manufacturer Part Number 1: RC0603JR-0710KL; Resistance: 10kR; Tolerance: 5%; Temperature Coefficient: 100ppm/°C; Voltage Rating (DC): 50V; Power Rating: 100mW; Supplier 1: Digi-Key; Stock 1: 22910838; Pricing 1: 1=0.10000, 10=0.01700, 100=0.00710, 1000=0.00318, 2500=0.00276 (USD); RoHS: Yes; Case/Package: 0603; Number of Pins: 2; Contact Plating: Tin,Matte; Case Code (Imperial): 0603; Case Code (Metric): 1608; Min Operating Temperature: -55°C; Max Operating Temperature: 155°C; Composition: Thick Film; Packaging: Tape and Reel; Voltage Rating: 50V; Termination: SMD/SMT; Military Standard: Not; Length: 1.6mm; Width: 0.8mm; Depth: 0.8mm; Radiation Hardening: No; REACH SVHC: Unknown; Lead Free: Lead Free; ComponentLink1URL: https://datasheet.ciiva.com/2452/pyu-rc0603-51-rohs-l-4-2452848.pdf?src-supplier=Digi-Key; ComponentLink1Description: https://datasheet.ciiva.com/2452/pyu-rc0603-51-rohs-l-4-2452848.pdf?src-supplier=Digi-Key; ComponentLink2URL: https://datasheet.ciiva.com/7746/443971-7746427.pdf?src-supplier=Element14; ComponentLink2Description: https://datasheet.ciiva.com/7746/443971-7746427.pdf?src-supplier=Element14; ComponentLink3URL: https://datasheet.ciiva.com/22747/443971-22747531.pdf?src-supplier=Element14; ComponentLink3Description: https://datasheet.ciiva.com/22747/443971-22747531.pdf?src-supplier=Element14; ComponentLink4URL: https://datasheet.ciiva.com/7746/443971-7746428.pdf?src-supplier=Element14; ComponentLink4Description: https://datasheet.ciiva.com/7746/443971-7746428.pdf?src-supplier=Element14; ComponentLink5URL: https://datasheet.ciiva.com/15189/getdatasheetpartid-327958-15189847.pdf?src-supplier=Verical; ComponentLink5Description: https://datasheet.ciiva.com/15189/getdatasheetpartid-327958-15189847.pdf?src-supplier=Verical; ComponentLink6URL: https://datasheet.ciiva.com/8883/pyu-rc0603-51-rohs-l-4-8883049.pdf?src-supplier=Avnet; ComponentLink6Description: https://datasheet.ciiva.com/8883/pyu-rc0603-51-rohs-l-4-8883049.pdf?src-supplier=Avnet
footprint R0603
pins: 1, 2

## CRGCQ0603F150R
designator R, comment 150  Supplier Part Number 1: A129678CT-ND
CRGCQ 0603 150R 1%; Manufacturer 1: TE Connectivity; Manufacturer Part Number 1: CRGCQ0603F150R; Supplier 1: Digi-Key; Stock 1: 74472; Pricing 1: 1=0.10000, 10=0.03000, 100=0.01200, 1000=0.00541, 2500=0.00469 (USD); RoHS: No; ComponentLink1URL: https://www.te.com/commerce/DocumentDelivery/DDEController?Action=srchrtrv&amp;DocNm=1773204-3&amp;DocType=DS&amp;DocLang=English&src-supplier=Digi-Key; ComponentLink1Description: https://www.te.com/commerce/DocumentDelivery/DDEController?Action=srchrtrv&amp;DocNm=1773204-3&amp;DocType=DS&amp;DocLang=English&src-supplier=Digi-Key; ComponentLink2URL: https://www.te.com/commerce/DocumentDelivery/DDEController?Action=srchrtrv&DocNm=1773204-3&DocType=DS&DocLang=English&src-supplier=Digi-Key; ComponentLink2Description: https://www.te.com/commerce/DocumentDelivery/DDEController?Action=srchrtrv&DocNm=1773204-3&DocType=DS&DocLang=English&src-supplier=Digi-Key
footprint R0603
pins: 1, 2

## EPG.0B.302.HLN
designator *
Circular Push Pull Connectors 2P FEMALE PCB MNT R/A SOLDER; Manufacturer 1: LEMO; Manufacturer Part Number 1: EPG.0B.302.HLN; Body Plating: Chrome; Body Material: Brass; Gender: Receptacle; Current Rating: 6A; Connector Type: Receptacle,Circular; Number of Positions: 2; Ratings: IP50; Supplier 1: Digi-Key; Supplier Part Number 1: 1124-1426-ND; Stock 1: 486; Pricing 1: 1=34.62000, 10=31.24700, 25=29.93760, 50=28.06660, 100=27.13100, 250=25.63408 (USD); RoHS: Yes; Mount: Through Hole; Contact Material: Bronze,Copper; Contact Plating: Gold; Shell Material: Plastic; Min Operating Temperature: -55°C; Max Operating Temperature: 250°C; Package Quantity: 1; Fastening Type: Push,Pull; Packaging: Bulk; Contact Gender: Female; Termination: Solder; Number of Contacts: 2; Orientation: Right Angle; Features: Shielded; REACH SVHC: No SVHC; ComponentLink1URL: https://datasheet.ciiva.com/7196/epg-0b-302-hln-web-7196713.pdf?src-supplier=Digi-Key; ComponentLink1Description: https://datasheet.ciiva.com/7196/epg-0b-302-hln-web-7196713.pdf?src-supplier=Digi-Key; ComponentLink2URL: https://datasheet.ciiva.com/11736/0900766b8002b24e-11736094.pdf?src-supplier=RSComponents; ComponentLink2Description: https://datasheet.ciiva.com/11736/0900766b8002b24e-11736094.pdf?src-supplier=RSComponents; ComponentLink3URL: https://datasheet.ciiva.com/5090/unipole-multipole-5090559.pdf?src-supplier=Mouser; ComponentLink3Description: https://datasheet.ciiva.com/5090/unipole-multipole-5090559.pdf?src-supplier=Mouser; ComponentLink4URL: https://datasheet.ciiva.com/8019/8926-8019119.pdf?src-supplier=Element14; ComponentLink4Description: https://datasheet.ciiva.com/8019/8926-8019119.pdf?src-supplier=Element14

## ERA-3AEB103V
designator R?, comment 10k  Supplier Part Number 1: P10KDBCT-ND
PANASONIC - ERA-3AEB103V - RES, METAL FILM, 10K, 0.1%, 0.1W, 0603,; Resistance: 10kR; Temperature Coefficient: 25ppm/°C; Power Rating: 100mW; Voltage Rating: 75V; Supplier 1: Digi-Key; Manufacturer 1: Panasonic; Manufacturer Part Number 1: ERA-3AEB103V; Stock 1: 1877208; Pricing 1: 1=0.35000, 10=0.30000, 100=0.11720, 1000=0.04906, 2500=0.04498 (USD); RoHS: Yes; Mount: Surface Mount; Case/Package: 0603; Number of Pins: 2; Contact Plating: Tin; Case Code (Metric): 1608; Case Code (Imperial): 0603; Min Operating Temperature: -55°C; Max Operating Temperature: 155°C; Tolerance: 0.1%; Composition: Thin Film,Metal Film; Packaging: Tape and Reel; Package Quantity: 5000; Number of Terminations: 2; Termination: SMD/SMT; Military Standard: Not; Max Power Dissipation: 100mW; Voltage Rating (DC): 75V; Length: 1.6mm; Height: 0.45mm; Width: 0.8mm; Depth: 0.8mm; Radiation Hardening: No; REACH SVHC: No SVHC; Lead Free: Lead Free; ComponentLink1URL: https://datasheet.ciiva.com/5734/485442-5734528.pdf?src-supplier=Farnell; ComponentLink1Description: https://datasheet.ciiva.com/5734/485442-5734528.pdf?src-supplier=Farnell; ComponentLink2URL: https://datasheet.ciiva.com/11808/0900766b80fe20f7-11808028.pdf?src-supplier=RSComponents; ComponentLink2Description: https://datasheet.ciiva.com/11808/0900766b80fe20f7-11808028.pdf?src-supplier=RSComponents; ComponentLink3URL: https://datasheet.ciiva.com/29183/451250-da-01-en-widerstand-0603-era-29183809.pdf?src-supplier=Conrad; ComponentLink3Description: https://datasheet.ciiva.com/29183/451250-da-01-en-widerstand-0603-era-29183809.pdf?src-supplier=Conrad; ComponentLink4URL: https://datasheet.ciiva.com/9194/aoa0000ce26-9194213.pdf?src-supplier=Avnet; ComponentLink4Description: https://datasheet.ciiva.com/9194/aoa0000ce26-9194213.pdf?src-supplier=Avnet; ComponentLink5URL: https://datasheet.ciiva.com/46376/485442-46376357.pdf?src-supplier=Element14; ComponentLink5Description: https://datasheet.ciiva.com/46376/485442-46376357.pdf?src-supplier=Element14; ComponentLink6URL: https://datasheet.ciiva.com/17212/aoa0000ce26-17212070.pdf?src-supplier=Avnet+Europe; ComponentLink6Description: https://datasheet.ciiva.com/17212/aoa0000ce26-17212070.pdf?src-supplier=Avnet+Europe; ComponentLink7URL: https://datasheet.ciiva.com/46422/1776116-46422520.pdf?src-supplier=Element14; ComponentLink7Description: https://datasheet.ciiva.com/46422/1776116-46422520.pdf?src-supplier=Element14; ComponentLink8URL: https://datasheet.ciiva.com/16427/aoa0000ce26-16427097.pdf?src-supplier=Future+Electronics; ComponentLink8Description: https://datasheet.ciiva.com/16427/aoa0000ce26-16427097.pdf?src-supplier=Future+Electronics; ComponentLink9URL: https://datasheet.ciiva.com/24072/aoa0000ce26-197354-24072585.pdf?src-supplier=Mouser; ComponentLink9Description: https://datasheet.ciiva.com/24072/aoa0000ce26-197354-24072585.pdf?src-supplier=Mouser; ComponentLink10URL: https://datasheet.ciiva.com/46388/1776116-46388109.pdf?src-supplier=Element14; ComponentLink10Description: https://datasheet.ciiva.com/46388/1776116-46388109.pdf?src-supplier=Element14; ComponentLink11URL: https://datasheet.ciiva.com/30126/54aoa0000ce26-30126478.pdf?src-supplier=Onlinecomponents.com; ComponentLink11Description: https://datasheet.ciiva.com/30126/54aoa0000ce26-30126478.pdf?src-supplier=Onlinecomponents.com; ComponentLink12URL: https://datasheet.ciiva.com/46388/485442-46388110.pdf?src-supplier=Element14; ComponentLink12Description: https://datasheet.ciiva.com/46388/485442-46388110.pdf?src-supplier=Element14; ComponentLink13URL: https://datasheet.ciiva.com/5734/aoa0000ce26-5734527.pdf?src-supplier=Farnell; ComponentLink13Description: https://datasheet.ciiva.com/5734/aoa0000ce26-5734527.pdf?src-supplier=Farnell
footprint R0603
pins: 1, 2

## ERA-3AEB2552V
designator R?, comment 25.5K
RESISTOR, 25K5, 0603, 0.1%, 0.1W; Manufacturer 1: Panasonic; Manufacturer Part Number 1: ERA-3AEB2552V; Resistance: 25.5kR; Temperature Coefficient: 25ppm/°C; Voltage Rating: 75V; Power Rating: 100mW; Supplier 1: Digi-Key; Supplier Part Number 1: P25.5KDBCT-ND; Stock 1: 16750; Pricing 1: 1=0.35000, 10=0.30000, 100=0.11720, 1000=0.04906, 2500=0.04498 (USD); RoHS: Yes; Mount: Surface Mount; Case/Package: 0603; Number of Pins: 2; Contact Plating: Tin; Case Code (Metric): 1608; Case Code (Imperial): 0603; Min Operating Temperature: -55°C; Max Operating Temperature: 155°C; Tolerance: 0.1%; Composition: Thin Film,Metal Film; Packaging: Tape and Reel; Package Quantity: 5000; Number of Terminations: 2; Termination: SMD/SMT; Max Power Dissipation: 100mW; Voltage Rating (DC): 75V; Features: Automotive AEC-Q200; Length: 1.6mm; Height: 0.45mm; Width: 0.8mm; Depth: 0.8mm; Radiation Hardening: No; Lead Free: Lead Free; ComponentLink1URL: https://datasheet.ciiva.com/11814/0900766b80eb1d8c-11814802.pdf?src-supplier=RSComponents; ComponentLink1Description: https://datasheet.ciiva.com/11814/0900766b80eb1d8c-11814802.pdf?src-supplier=RSComponents; ComponentLink2URL: https://datasheet.ciiva.com/5987/485442-5987144.pdf?src-supplier=Farnell; ComponentLink2Description: https://datasheet.ciiva.com/5987/485442-5987144.pdf?src-supplier=Farnell; ComponentLink3URL: https://datasheet.ciiva.com/9191/aoa0000ce26-9191420.pdf?src-supplier=Avnet; ComponentLink3Description: https://datasheet.ciiva.com/9191/aoa0000ce26-9191420.pdf?src-supplier=Avnet; ComponentLink4URL: https://datasheet.ciiva.com/17210/aoa0000ce26-17210701.pdf?src-supplier=Avnet+Europe; ComponentLink4Description: https://datasheet.ciiva.com/17210/aoa0000ce26-17210701.pdf?src-supplier=Avnet+Europe; ComponentLink5URL: https://datasheet.ciiva.com/5987/485442-5987151.pdf?src-supplier=Farnell; ComponentLink5Description: https://datasheet.ciiva.com/5987/485442-5987151.pdf?src-supplier=Farnell; ComponentLink6URL: https://datasheet.ciiva.com/7870/485442-7870559.pdf?src-supplier=Element14; ComponentLink6Description: https://datasheet.ciiva.com/7870/485442-7870559.pdf?src-supplier=Element14
footprint R0603
pins: 1, 2